# EAGLE library part MICRO-USB-SMD-TYPE-AB-R/A(ST-USB-001L) (library Seeed-OPL-Connector)
320010012
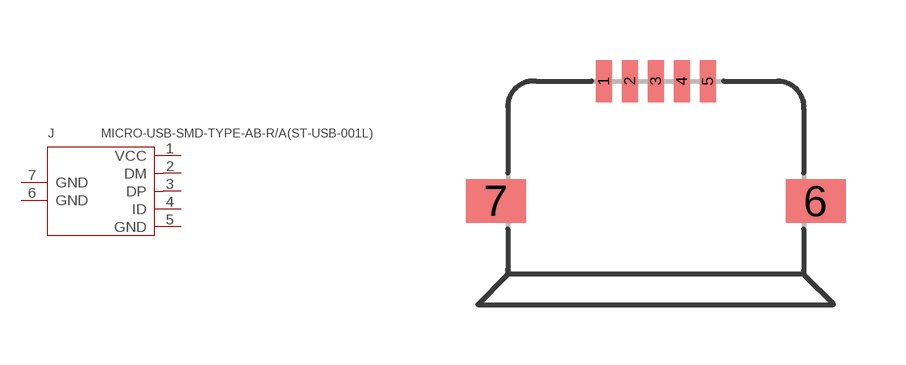
[diagram p47: symbol with the pads of MICRO-USB5+2P-SMD-0.65; footprint MICRO-USB5+2P-SMD-0.65]

Designator prefix J

## MICRO-USB-SMD-TYPE-AB-R/A(ST-USB-001L) (MPN: ST-USB-001L)  [MICRO-USB5+2P-SMD-0.65]
1  VCC
2  DM
3  DP
4  ID
5  GND
6  GND
7  GND

## Footprint MICRO-USB5+2P-SMD-0.65 (pad centres in mm)
smd 0.4 x 1.05: 1 -1.3,0; 2 -0.65,0; 3 0,0; 4 0.65,0; 5 1.3,0
smd 1.5 x 1.1: 6 4,-3; 7 -4,-3